# Altium schematic symbol library Schlib2.SchLib: 51 symbols
Pins are listed as number, name and electrical type; pins without a type are passive.

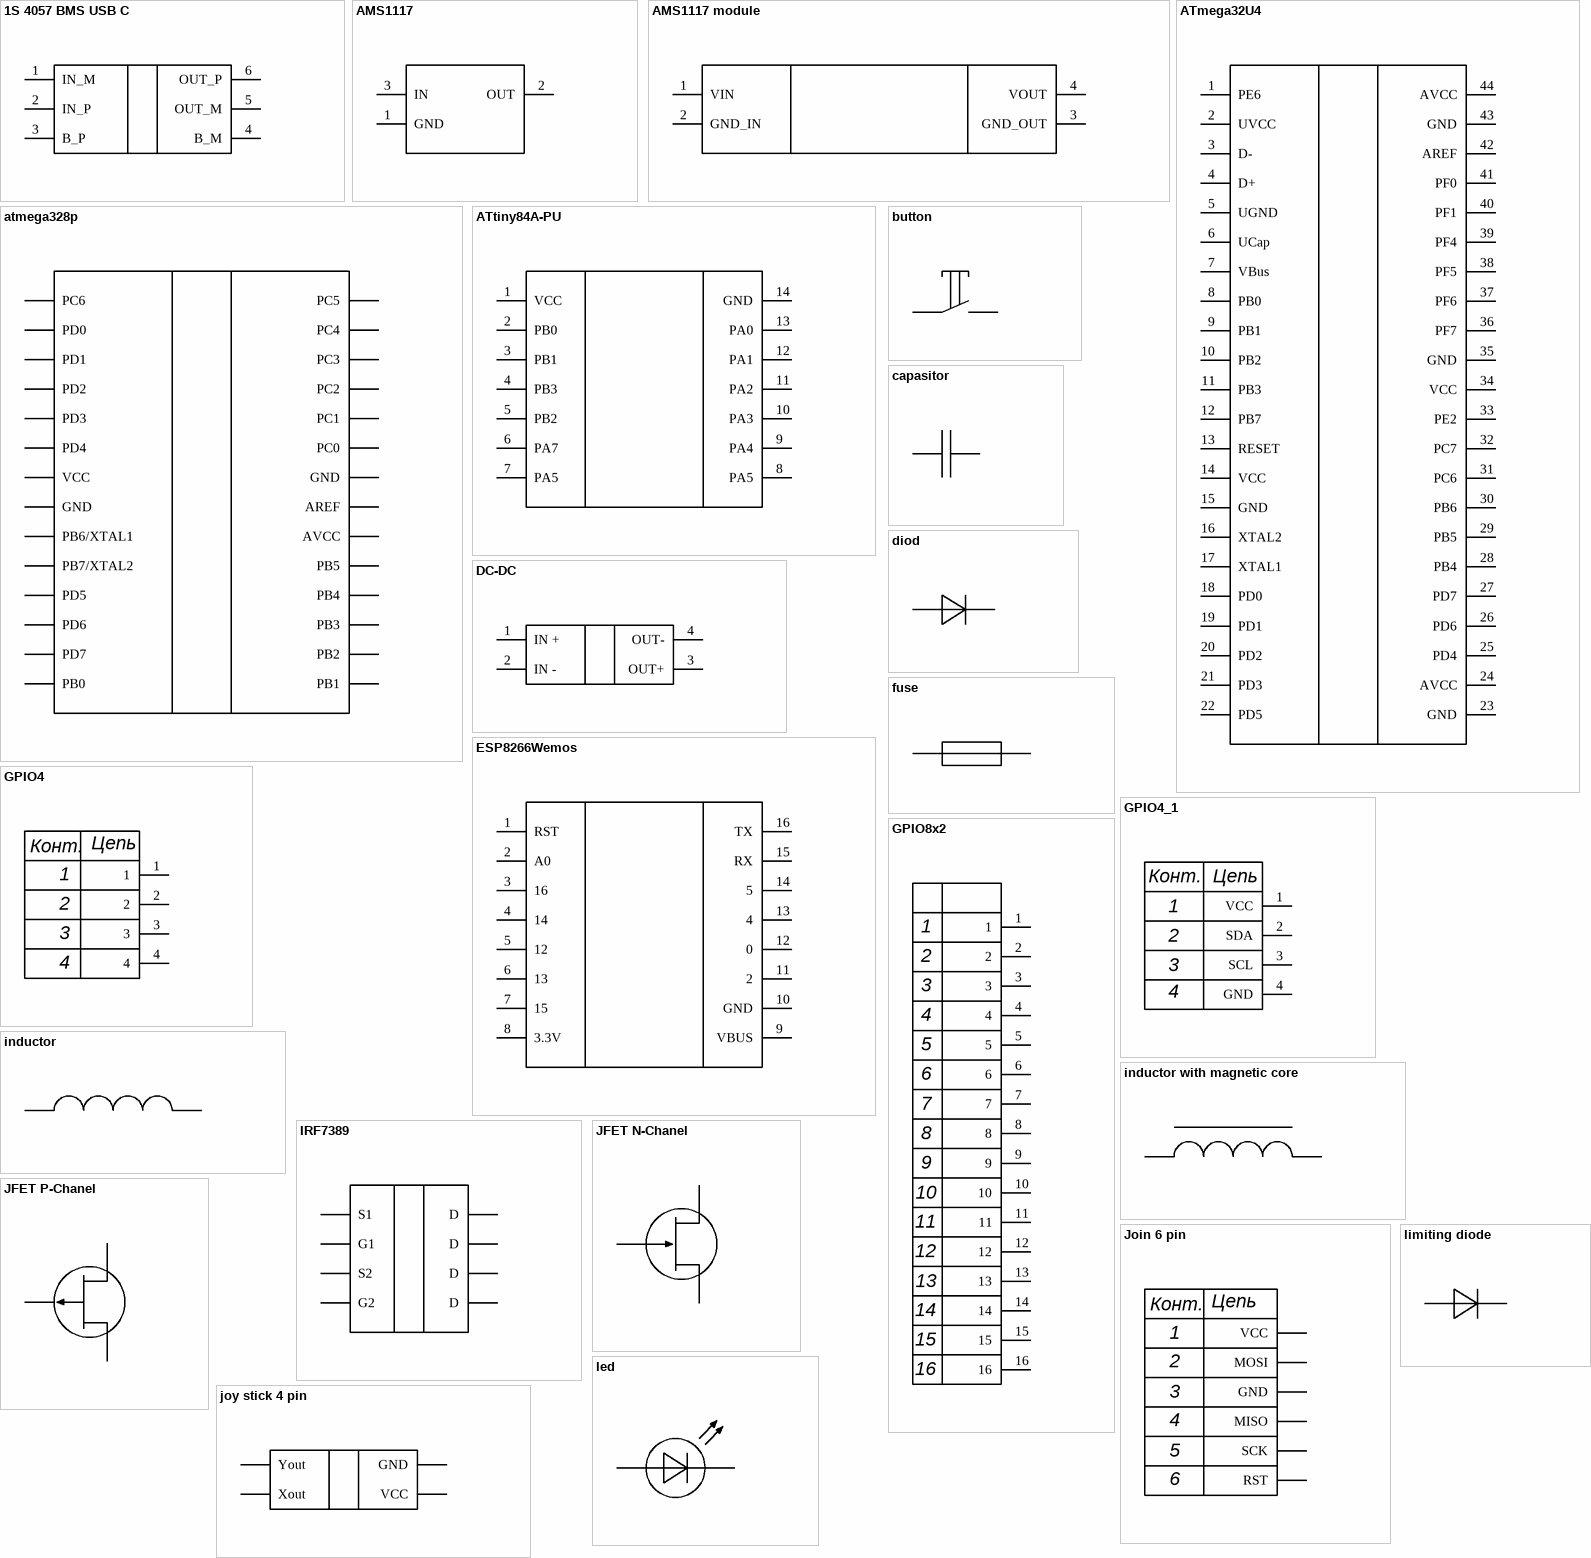
[diagram p0: symbols 1S 4057 BMS USB C to limiting diode]

## 1S 4057 BMS USB C
designator DA?
pins: 1 IN_M, 2 IN_P, 3 B_P, 4 B_M, 5 OUT_M, 6 OUT_P

## AMS1117
designator DA?
pins: 1 GND, 2 OUT, 3 IN

## AMS1117 module
designator DA?, comment AMS1117
pins: 1 VIN, 2 GND_IN, 3 GND_OUT, 4 VOUT

## ATmega32U4
designator DD?
pins: 1 PE6, 2 UVCC, 3 D-, 4 D+, 5 UGND, 6 UCap, 7 VBus, 8 PB0, 9 PB1, 10 PB2, 11 PB3, 12 PB7, 13 RESET, 14 VCC, 15 GND, 16 XTAL2, 17 XTAL1, 18 PD0, 19 PD1, 20 PD2, 21 PD3, 22 PD5, 23 GND, 24 AVCC, 25 PD4, 26 PD6, 27 PD7, 28 PB4, 29 PB5, 30 PB6, 31 PC6, 32 PC7, 33 PE2, 34 VCC, 35 GND, 36 PF7, 37 PF6, 38 PF5, 39 PF4, 40 PF1, 41 PF0, 42 AREF, 43 GND, 44 AVCC

## atmega328p
designator DD?
pins: 1 PC6, 2 PD0, 3 PD1, 4 PD2, 5 PD3, 6 PD4, 7 VCC, 8 GND, 9 PB6/XTAL1, 10 PB7/XTAL2, 11 PD5, 12 PD6, 13 PD7, 14 PB0, 15 PB1, 16 PB2, 17 PB3, 18 PB4, 19 PB5, 20 AVCC, 21 AREF, 22 GND, 23 PC0, 24 PC1, 25 PC2, 26 PC3, 27 PC4, 28 PC5

## ATtiny84A-PU
designator DD?
pins: 1 VCC, 2 PB0, 3 PB1, 4 PB3, 5 PB2, 6 PA7, 7 PA5, 8 PA5, 9 PA4, 10 PA3, 11 PA2, 12 PA1, 13 PA0, 14 GND

## button
designator SW?
pins: 1, 2

## capasitor
designator C?
pins: 1, 2

## DC-DC
designator DA?
pins: 1 IN +, 2 IN -, 3 OUT+, 4 OUT-

## diod
designator VD?
pins: 1 anode, 2 catode

## ESP8266Wemos
designator DD?, comment ESPWemos
pins: 1 RST, 2 A0, 3 16, 4 14, 5 12, 6 13, 7 15, 8 3.3V, 9 VBUS, 10 GND, 11 2, 12 0, 13 4, 14 5, 15 RX, 16 TX

## fuse
designator F?
pins: 1, 2

## GPIO4
designator DD?, comment IRF7389
pins: 1, 2, 3, 4
text: Цепь; Конт.

## GPIO4_1
designator XS?, comment I2C
pins: 1 VCC, 2 SDA, 3 SCL, 4 GND
text: Конт.; Цепь

## GPIO8x2
designator XS?, comment GPIO
pins: 1, 2, 3, 4, 5, 6, 7, 8, 9, 10, 11, 12, 13, 14, 15, 16

## inductor
designator L?
pins: 1, 2

## inductor with magnetic core
designator L?
pins: 1, 2

## IRF7389
designator DD?
pins: 1 S1 , 2 G1, 3 S2, 4 G2, 5 D, 6 D, 7 D, 8 D

## JFET N-Chanel
designator ST?
pins: 1 source, 2 gate, 3 drain

## JFET P-Chanel
designator ST?
pins: 1 source, 2 gate, 3 drain

## Join 6 pin
designator XS?, comment IRF7389
pins: 1 VCC, 2 MOSI, 3 GND, 4 MISO, 5 SCK, 6 RST
text: Цепь; Конт.

## joy stick 4 pin
designator DA?
pins: 1 Xout, 2 Yout, 3 VCC, 4 GND

## led
designator HL?
pins: 1 anode, 2 catode

## limiting diode
designator VD?
pins: 1 anode, 2 catode

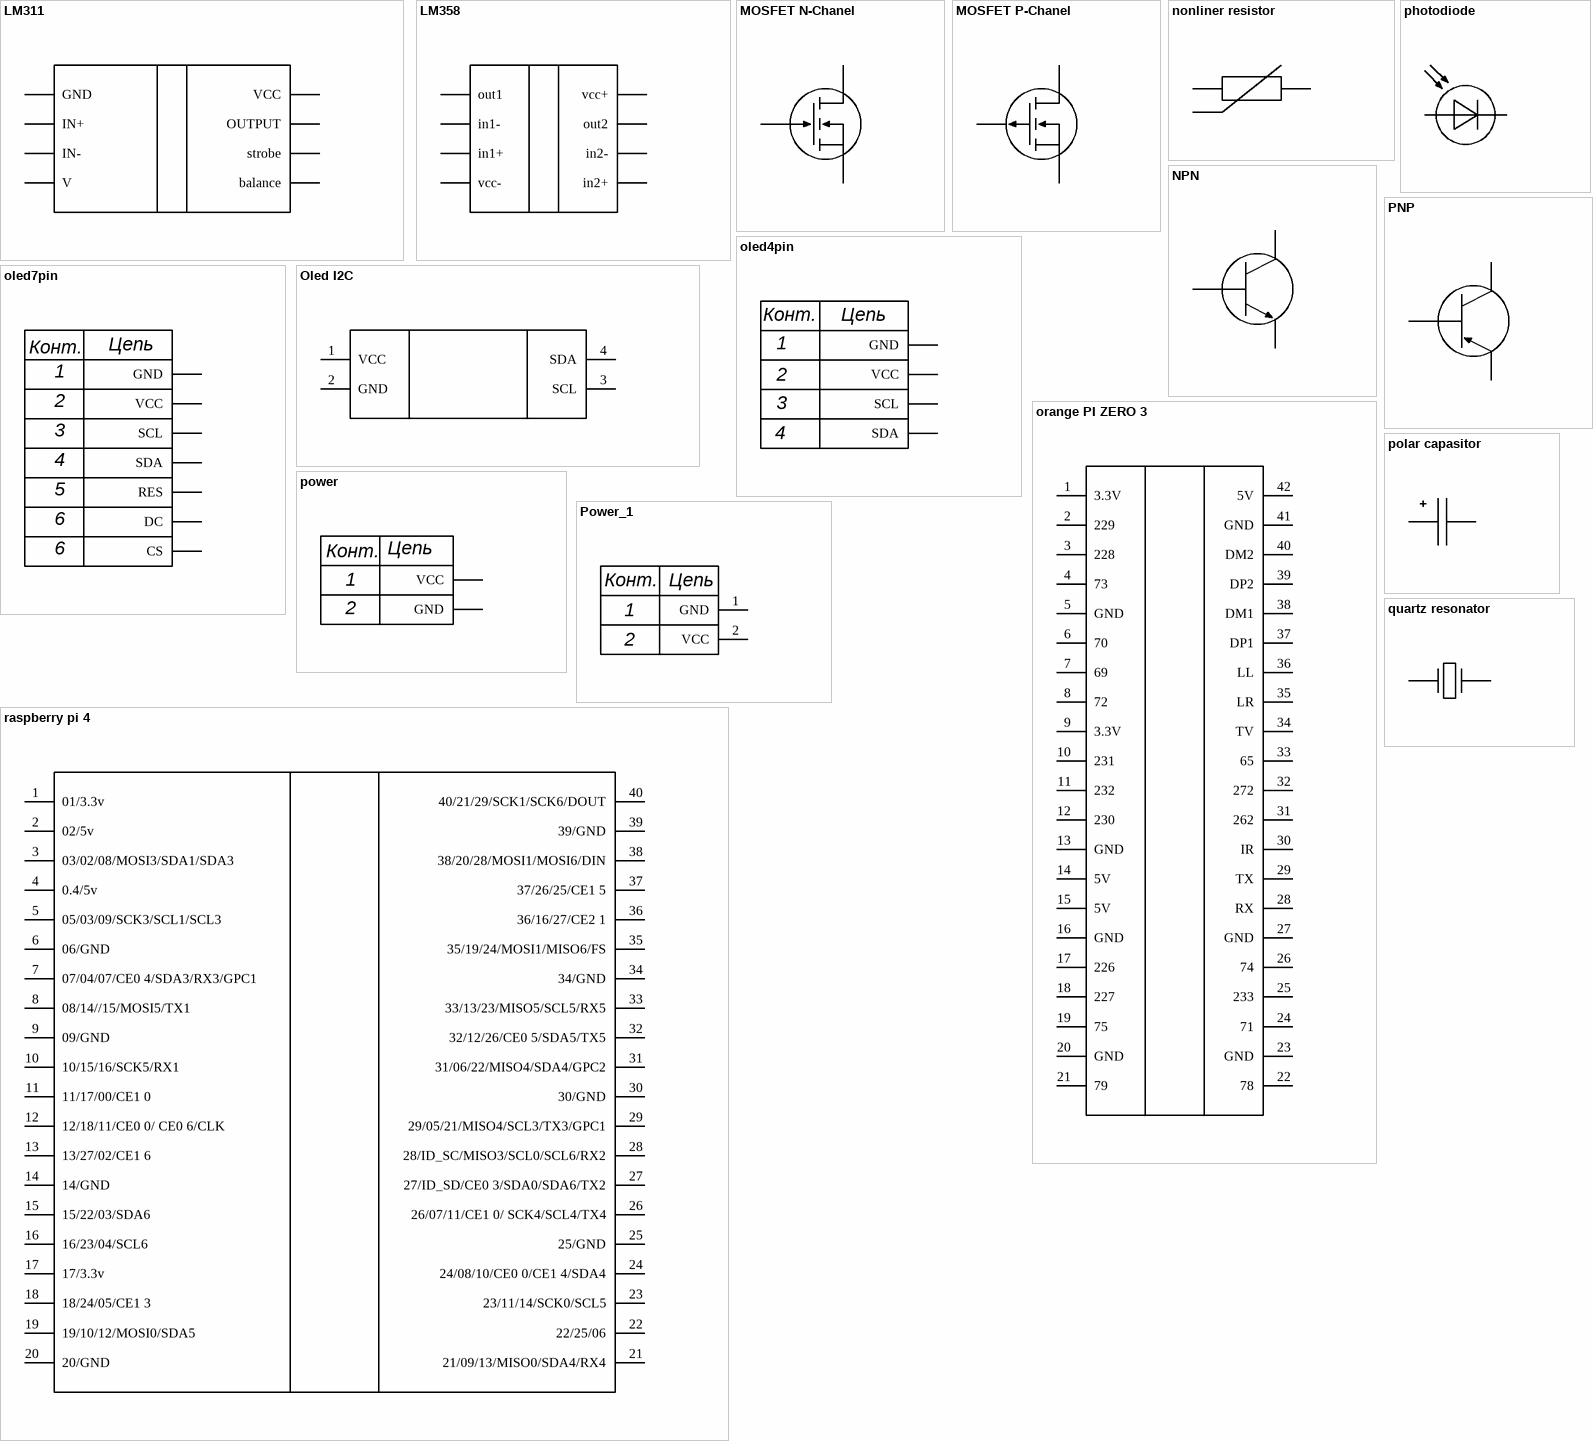
[diagram p1: symbols LM311 to raspberry pi 4]

## LM311
designator DD?
pins: 1 GND, 2 IN+, 3 IN-, 4 V, 5 balance, 6 strobe, 7 OUTPUT, 8 VCC

## LM358
designator DD?
pins: 1 out1 , 2 in1-, 3 in1+, 4 vcc-, 5 in2+, 6 in2-, 7 out2, 8 vcc+

## MOSFET N-Chanel
designator ST?
pins: 1 source, 2 gate, 3 drain

## MOSFET P-Chanel
designator ST?
pins: 1 source, 2 gate, 3 drain

## nonliner resistor
designator RK?
pins: 1, 2

## NPN
designator ST?
pins: 1 emittor, 2 base, 3 collector 

## oled4pin
designator DD?
pins: 1 GND, 2 VCC, 3 SCL, 4 SDA
text: Конт.; Цепь

## oled7pin
designator DD?
pins: 1 GND, 2 VCC, 3 SCL, 4 SDA, 5 RES, 6 DC, 7 CS
text: Конт.; Цепь

## Oled I2C
designator HG?
pins: 1 VCC, 2 GND, 3 SCL, 4 SDA

## orange PI ZERO 3
designator DD?
pins: 1 3.3V, 2 229, 3 228, 4 73, 5 GND, 6 70, 7 69, 8 72, 9 3.3V, 10 231, 11 232, 12 230, 13 GND, 14 5V, 15 5V, 16 GND, 17 226, 18 227, 19 75, 20 GND, 21 79, 22 78, 23 GND, 24 71, 25 233, 26 74, 27 GND, 28 RX, 29 TX, 30 IR, 31 262, 32 272, 33 65, 34 TV, 35 LR, 36 LL, 37 DP1, 38 DM1, 39 DP2, 40 DM2, 41 GND, 42 5V

## photodiode
designator VD?
pins: 1 anode, 2 catode

## PNP
designator ST?
pins: 1 emittor, 2 base, 3 Collector 

## polar capasitor
designator C?
pins: 1 Anode, 2 Catode

## power
designator XS?
pins: 1 VCC, 2 GND
text: Цепь; Конт.

## Power_1
designator DD?, comment power
pins: 1 GND, 2 VCC
text: Конт.; Цепь

## quartz resonator
designator ZQ?
pins: 1, 2

## raspberry pi 4
designator DD?, comment Raspberry PI 4  (value not drawn)
pins: 1 01/3.3v, 2 02/5v, 3 03/02/08/MOSI3/SDA1/SDA3, 4 0.4/5v, 5 05/03/09/SCK3/SCL1/SCL3, 6 06/GND, 7 07/04/07/CE0 4/SDA3/RX3/GPC1, 8 08/14//15/MOSI5/TX1, 9 09/GND, 10 10/15/16/SCK5/RX1, 11 11/17/00/CE1 0, 12 12/18/11/CE0 0/ CE0 6/CLK, 13 13/27/02/CE1 6, 14 14/GND, 15 15/22/03/SDA6, 16 16/23/04/SCL6, 17 17/3.3v, 18 18/24/05/CE1 3, 19 19/10/12/MOSI0/SDA5, 20 20/GND, 21 21/09/13/MISO0/SDA4/RX4, 22 22/25/06, 23 23/11/14/SCK0/SCL5, 24 24/08/10/CE0 0/CE1 4/SDA4, 25 25/GND, 26 26/07/11/CE1 0/ SCK4/SCL4/TX4, 27 27/ID_SD/CE0 3/SDA0/SDA6/TX2, 28 28/ID_SC/MISO3/SCL0/SCL6/RX2, 29 29/05/21/MISO4/SCL3/TX3/GPC1, 30 30/GND, 31 31/06/22/MISO4/SDA4/GPC2, 32 32/12/26/CE0 5/SDA5/TX5, 33 33/13/23/MISO5/SCL5/RX5, 34 34/GND, 35 35/19/24/MOSI1/MISO6/FS, 36 36/16/27/CE2 1, 37 37/26/25/CE1 5, 38 38/20/28/MOSI1/MOSI6/DIN, 39 39/GND, 40 40/21/29/SCK1/SCK6/DOUT

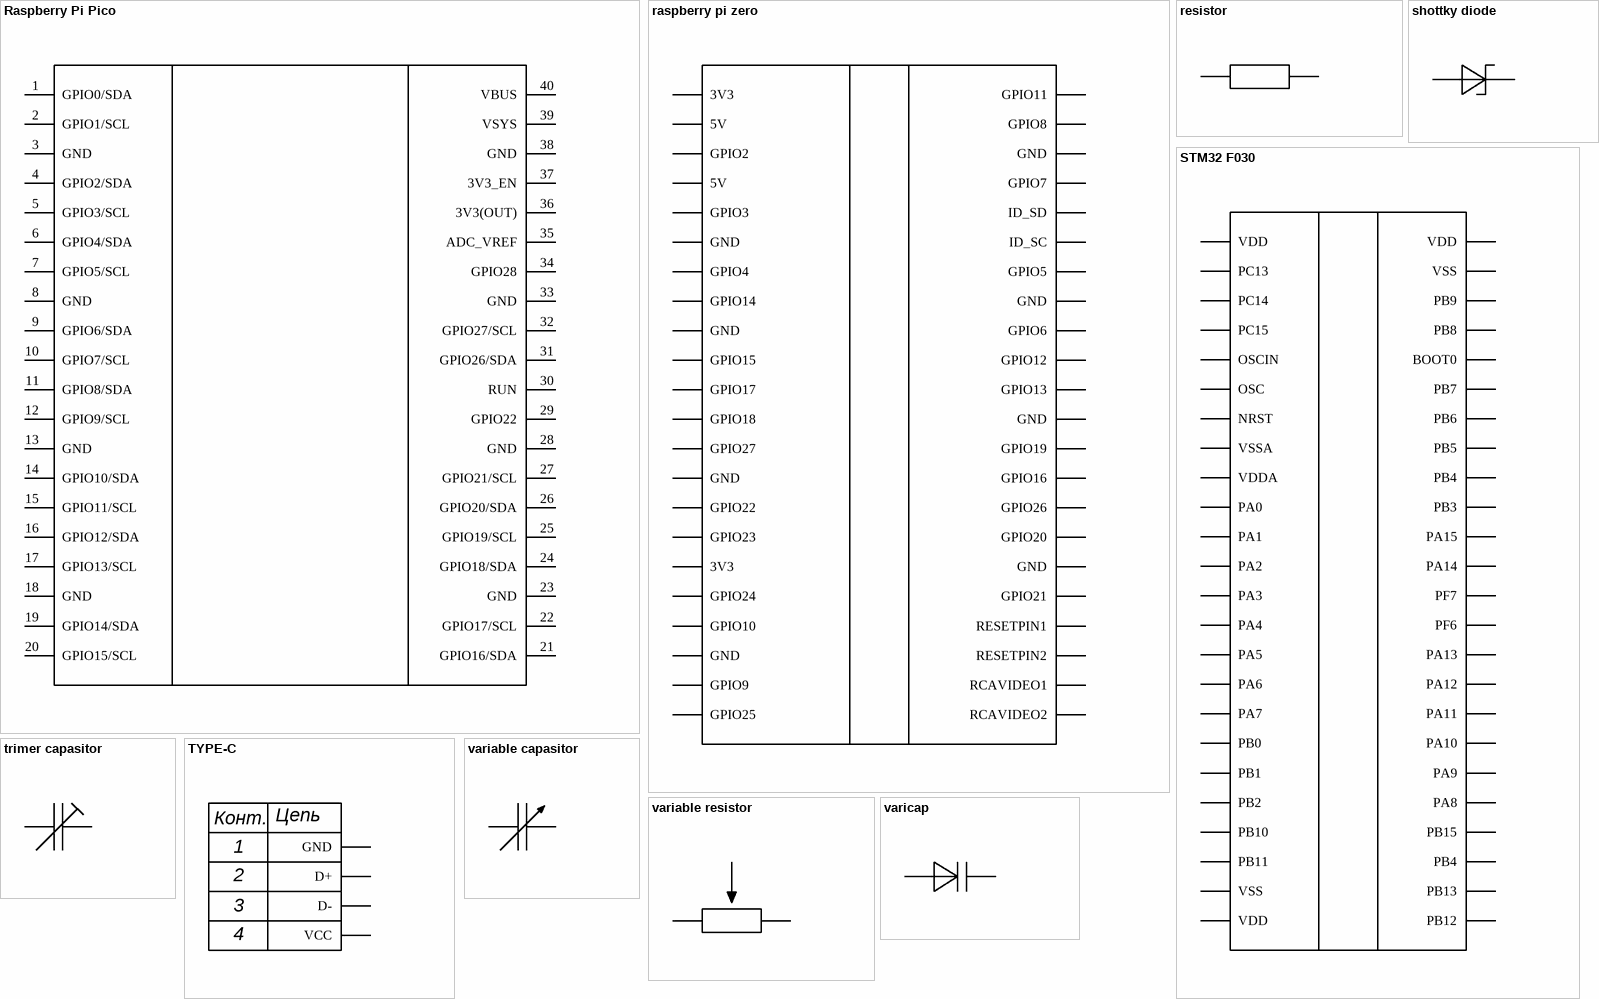
[diagram p2: symbols Raspberry Pi Pico to varicap]

## Raspberry Pi Pico
designator DD?
pins: 1 GPIO0/SDA, 2 GPIO1/SCL, 3 GND, 4 GPIO2/SDA, 5 GPIO3/SCL, 6 GPIO4/SDA, 7 GPIO5/SCL, 8 GND, 9 GPIO6/SDA, 10 GPIO7/SCL, 11 GPIO8/SDA, 12 GPIO9/SCL, 13 GND, 14 GPIO10/SDA, 15 GPIO11/SCL, 16 GPIO12/SDA, 17 GPIO13/SCL, 18 GND, 19 GPIO14/SDA, 20 GPIO15/SCL, 21 GPIO16/SDA, 22 GPIO17/SCL, 23 GND, 24 GPIO18/SDA, 25 GPIO19/SCL, 26 GPIO20/SDA, 27 GPIO21/SCL, 28 GND, 29 GPIO22, 30 RUN, 31 GPIO26/SDA, 32 GPIO27/SCL, 33 GND, 34 GPIO28, 35 ADC_VREF, 36 3V3(OUT), 37 3V3_EN, 38 GND, 39 VSYS, 40 VBUS

## raspberry pi zero
designator DD?
pins: 1 3V3, 2 5V, 3 GPIO2, 4 5V, 5 GPIO3, 6 GND, 7 GPIO4, 8 GPIO14, 9 GND, 10 GPIO15, 11 GPIO17, 12 GPIO18, 13 GPIO27, 14 GND, 15 GPIO22, 16 GPIO23, 17 3V3, 18 GPIO24, 19 GPIO10, 20 GND, 21 GPIO9, 22 GPIO25, 23 GPIO11, 24 GPIO8, 25 GND, 26 GPIO7, 27 ID_SD, 28 ID_SC, 29 GPIO5, 30 GND, 31 GPIO6, 32 GPIO12, 33 GPIO13, 34 GND, 35 GPIO19, 36 GPIO16, 37 GPIO26, 38 GPIO20, 39 GND, 40 GPIO21, 41 RESETPIN1, 42 RESETPIN2, 43 RCAVIDEO1, 44 RCAVIDEO2

## resistor
designator R?
pins: 1, 2

## shottky diode
designator VD?
pins: 1 anode, 2 catode

## STM32 F030
designator DD?
pins: 1 VDD, 2 PC13, 3 PC14, 4 PC15, 5 OSCIN, 6 OSC, 7 NRST, 8 VSSA, 9 VDDA, 10 PA0, 11 PA1, 12 PA2, 13 PA3, 14 PA4, 15 PA5, 16 PA6, 17 PA7, 18 PB0, 19 PB1, 20 PB2, 21 PB10, 22 PB11, 23 VSS, 24 VDD, 25 PB12, 26 PB13, 27 PB4, 28 PB15, 29 PA8, 30 PA9, 31 PA10, 32 PA11, 33 PA12, 34 PA13, 35 PF6, 36 PF7, 37 PA14, 38 PA15, 39 PB3, 40 PB4, 41 PB5, 42 PB6, 43 PB7, 44 BOOT0, 45 PB8, 46 PB9, 47 VSS, 48 VDD

## trimer capasitor
designator C?
pins: 1 Anode, 2 Catode

## TYPE-C
designator XS?
pins: 1 GND, 2 D+, 3 D-, 4 VCC
text: Цепь; Конт.

## variable capasitor
designator C?
pins: 1 Anode, 2 Catode

## variable resistor
designator R?
pins: 1, 2, 3

## varicap
designator VD?
pins: 1 anode, 2 catode